# Altium footprint library Power Supply.PcbLib: 9 footprints
Each footprint in its own frame and in the unit in brackets; x right, y up, seen from the top. Pads: shape width x height; smd on the part's side, far side on the other; paste and mask are expansions set on the pad; w line width, h text height; cw(c..) or ccw(c..) is an arc to the next point about the centre after c.
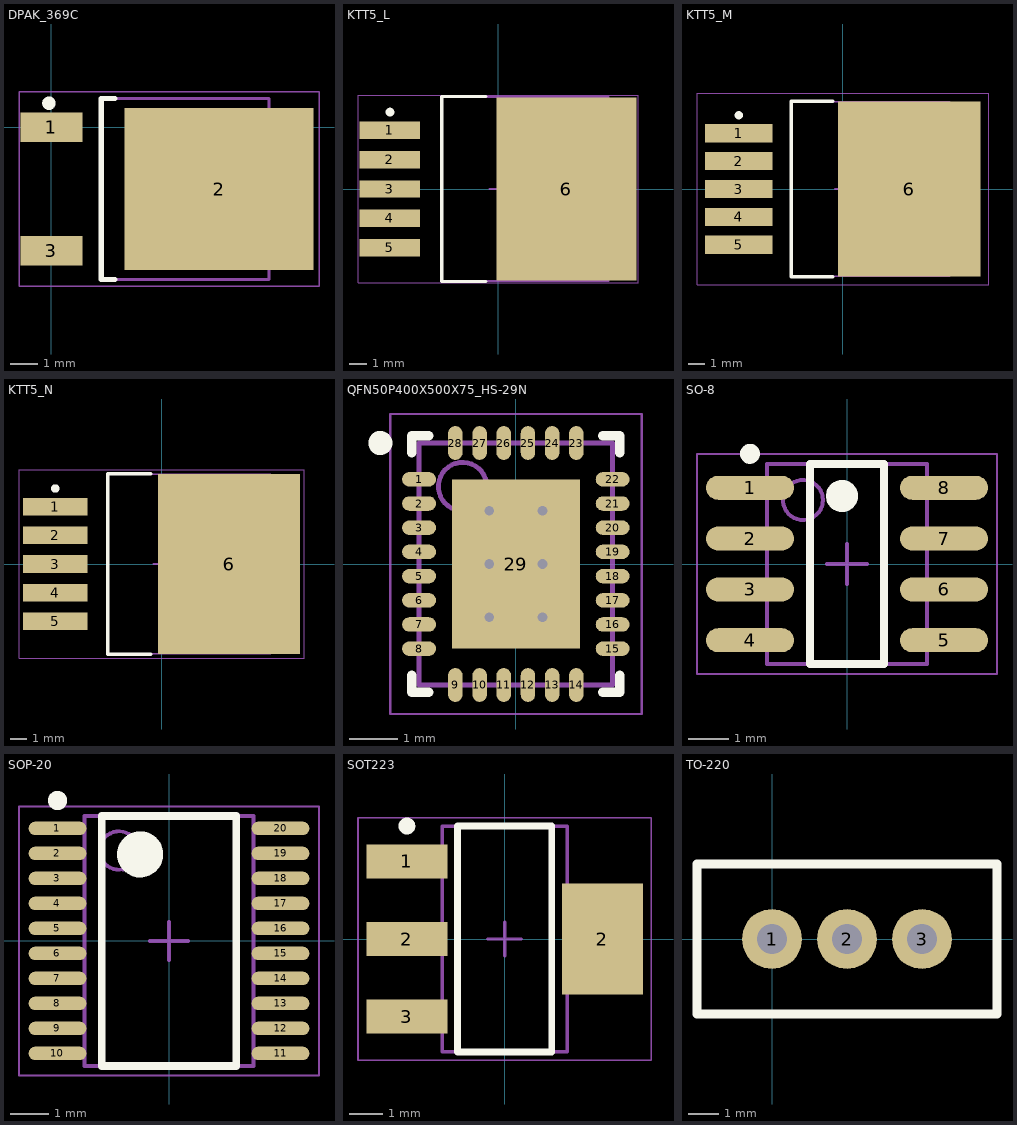
[diagram p0: the footprints below, top view; thin cyan lines are the x and y axes]

## DPAK_369C [mm] "D-PAK, 4-Leads, Body 6.1x6.6mm, Pitch 2.29mm, Lead Span 9.7mm, IPC Medium Density"
height 2.38
pads (3):
  rect 2.3x1.1 smd: 1(0,0) 3(0,-4.56)
  rect 7x6 smd: 2(6.2,-2.28)
Top Overlay:
  circle w0.25: c-0.093,0.895 r0.125
  lines w0.2: 2.35,-5.63 1.85,-5.63 1.85,1.07 2.35,1.07
Mechanical 13:
  lines w0.1: 1.85,-5.63 8.05,-5.63 8.05,1.07 1.85,1.07 1.85,-5.63
Mechanical 15:
  lines w0.05: -1.2,-5.88 9.9,-5.88 9.9,1.32 -1.2,1.32 -1.2,-5.88
  lines w0.1: 3.85,-2.28 4.85,-2.28 ; 4.35,-2.78 4.35,-1.78
3D body: height 2.4, standoff 0, extent -0.603,-5.58 9.497,1.02

## KTT5_L [mm] "D2-PAK, 6-Leads, Body 8.9x10.2mm, Pitch 1.7mm, Lead Span 15.2mm, IPC High Density"
height 4.83
pads (6):
  rect 3.5x1 smd: 1(-6.25,3.4) 2(-6.25,1.7) 3(-6.25,0) 4(-6.25,-1.7) 5(-6.25,-3.4)
  rect 8.1x10.6 smd: 6(3.95,0)
Top Overlay:
  circle w0.25: c-6.25,4.45 r0.125
  lines w0.2: -0.7,-5.35 -3.25,-5.35 -3.25,5.35 -0.7,5.35
Mechanical 13:
  lines w0.1: -3.25,-5.325 6.4,-5.325 6.4,5.325 -3.25,5.325 -3.25,-5.325
Mechanical 15:
  lines w0.05: -8.1,-5.425 8.1,-5.425 8.1,5.425 -8.1,5.425 -8.1,-5.425
  lines w0.1: -0.5,0 0.5,0 ; 0,-0.5 0,0.5
3D body: height 4.83, standoff 0, extent -3.25,-5.325 6.4,5.325

## KTT5_M [mm] "D2-PAK, 6-Leads, Body 8.9x10.2mm, Pitch 1.7mm, Lead Span 15.2mm, IPC Low Density"
height 4.83
pads (6):
  rect 4.1x1.1 smd: 1(-6.35,3.4) 2(-6.35,1.7) 3(-6.35,0) 4(-6.35,-1.7) 5(-6.35,-3.4)
  rect 8.7x10.7 smd: 6(4.05,0)
Top Overlay:
  circle w0.25: c-6.35,4.5 r0.125
  lines w0.2: -0.6,-5.35 -3.15,-5.35 -3.15,5.35 -0.6,5.35
Mechanical 13:
  lines w0.1: -3.15,-5.325 -3.15,5.325 6.5,5.325 6.5,-5.325 -3.15,-5.325
Mechanical 15:
  lines w0.05: -8.9,-5.85 -8.9,5.85 8.9,5.85 8.9,-5.85 -8.9,-5.85
  lines w0.1: -0.5,0 0.5,0 ; 0,-0.5 0,0.5
3D body: height 4.83, standoff 0, extent -3.15,-5.325 6.5,5.325

## KTT5_N [mm] "D2-PAK, 6-Leads, Body 8.9x10.2mm, Pitch 1.7mm, Lead Span 15.2mm, IPC Medium Density"
height 4.83
pads (6):
  rect 3.8x1.05 smd: 1(-6.3,3.4) 2(-6.3,1.7) 3(-6.3,0) 4(-6.3,-1.7) 5(-6.3,-3.4)
  rect 8.4x10.65 smd: 6(4,0)
Top Overlay:
  circle w0.25: c-6.3,4.475 r0.125
  lines w0.2: -0.65,-5.35 -3.2,-5.35 -3.2,5.35 -0.65,5.35
Mechanical 13:
  lines w0.1: -3.2,-5.325 -3.2,5.325 6.45,5.325 6.45,-5.325 -3.2,-5.325
Mechanical 15:
  lines w0.05: -8.45,-5.575 -8.45,5.575 8.45,5.575 8.45,-5.575 -8.45,-5.575
  lines w0.1: -0.5,0 0.5,0 ; 0,-0.5 0,0.5
3D body: height 4.83, standoff 0, extent -3.2,-5.325 6.45,5.325

## QFN50P400X500X75_HS-29N [mm] "QFN, 28-Leads, Body 4,00x5,00mm, Pitch 0,50mm, Thermal Pad 2,65x3,50mm, IPC Medium Density"
height 0.75
pads (29):
  oval 0.7x0.3 smd: 1(-2,1.75) 2(-2,1.25) 3(-2,0.75) 4(-2,0.25) 5(-2,-0.25) 6(-2,-0.75) 7(-2,-1.25) 8(-2,-1.75) 15(2,-1.75) 16(2,-1.25) 17(2,-0.75) 18(2,-0.25) 19(2,0.25) 20(2,0.75) 21(2,1.25) 22(2,1.75)
  oval 0.3x0.7 smd: 9(-1.25,-2.5) 10(-0.75,-2.5) 11(-0.25,-2.5) 12(0.25,-2.5) 13(0.75,-2.5) 14(1.25,-2.5) 23(1.25,2.5) 24(0.75,2.5) 25(0.25,2.5) 26(-0.25,2.5) 27(-0.75,2.5) 28(-1.25,2.5)
  rect 2.65x3.5 smd: 29(0,0)
via 0.55,-1.1 diameter 0.5 hole 0.2
via -0.55,-1.1 diameter 0.5 hole 0.2
via 0.55,0 diameter 0.5 hole 0.2
via -0.55,0 diameter 0.5 hole 0.2
via 0.55,1.1 diameter 0.5 hole 0.2
via -0.55,1.1 diameter 0.5 hole 0.2
Top Overlay:
  circle w0.25: c-2.8,2.5 r0.125
  lines w0.2: -2.15,-2.3 -2.15,-2.65 -1.8,-2.65 ; -2.15,2.3 -2.15,2.65 -1.8,2.65 ; 1.8,-2.65 2.15,-2.65 2.15,-2.3 ; 1.8,2.65 2.15,2.65 2.15,2.3
Mechanical 13:
  circle w0.1: c-1.1,1.6 r0.5
  lines w0.1: -2,-2.5 2,-2.5 2,2.5 -2,2.5 -2,-2.5
Mechanical 15:
  lines w0.05: -2.6,-3.1 2.6,-3.1 2.6,3.1 -2.6,3.1 -2.6,-3.1
  lines w0.1: -0.5,0 0.5,0 ; 0,-0.5 0,0.5
3D body: height 0.75, standoff 0.05, extent -2,-2.5 2,2.5

## SO-8 [mm] "SOIC, 8-Leads, Body 4,90x3,90mm, Pitch 1,27mm, IPC Medium Density"
height 1.75
pads (8):
  oval 2.2x0.6 smd: 1(-2.425,1.905) 2(-2.425,0.635) 3(-2.425,-0.635) 4(-2.425,-1.905) 5(2.425,-1.905) 6(2.425,-0.635) 7(2.425,0.635) 8(2.425,1.905)
Top Overlay:
  circle w0.4: c-0.125,1.7 r0.2
  circle w0.25: c-2.425,2.755 r0.125
  lines w0.2: -0.925,-2.5 0.925,-2.5 0.925,2.5 -0.925,2.5 -0.925,-2.5
Mechanical 13:
  circle w0.1: c-1.1,1.6 r0.5
  lines w0.1: -2,-2.5 2,-2.5 2,2.5 -2,2.5 -2,-2.5
Mechanical 15:
  lines w0.05: -3.75,-2.75 3.75,-2.75 3.75,2.75 -3.75,2.75 -3.75,-2.75
  lines w0.1: -0.5,0 0.5,0 ; 0,-0.5 0,0.5
3D body: height 1.75, standoff 0.1, extent -2,-2.5 2,2.5

## SOP-20 [mm] "TSOP, 20-Leads, Body 6,50x4,40mm, Pitch 0,65mm, IPC Medium Density"
height 1
pads (20):
  oval 1.5x0.35 smd: 1(-2.9,2.925) 2(-2.9,2.275) 3(-2.9,1.625) 4(-2.9,0.975) 5(-2.9,0.325) 6(-2.9,-0.325) 7(-2.9,-0.975) 8(-2.9,-1.625) 9(-2.9,-2.275) 10(-2.9,-2.925) 11(2.9,-2.925) 12(2.9,-2.275) 13(2.9,-1.625) 14(2.9,-0.975) 15(2.9,-0.325) 16(2.9,0.325) 17(2.9,0.975) 18(2.9,1.625) 19(2.9,2.275) 20(2.9,2.925)
Top Overlay:
  circle w0.6: c-0.75,2.25 r0.3
  circle w0.25: c-2.9,3.65 r0.125
  lines w0.2: -1.75,-3.25 1.75,-3.25 1.75,3.25 -1.75,3.25 -1.75,-3.25
Mechanical 13:
  circle w0.1: c-1.3,2.35 r0.5
  lines w0.1: -2.2,-3.25 2.2,-3.25 2.2,3.25 -2.2,3.25 -2.2,-3.25
Mechanical 15:
  lines w0.05: -3.9,-3.5 3.9,-3.5 3.9,3.5 -3.9,3.5 -3.9,-3.5
  lines w0.1: -0.5,0 0.5,0 ; 0,-0.5 0,0.5
3D body: height 1, standoff 0.1, extent -2.2,-3.25 2.2,3.25

## SOT223 [mm] "SOT223, 4-Leads, Body 6.5x3.5mm, Pitch 2.3mm, Lead Span 7mm, IPC Medium Density"
height 1.8
pads (4):
  rect 2.4x1 smd: 1(-2.9,2.3) 2(-2.9,0) 3(-2.9,-2.3)
  rect 2.4x3.3 smd: 2(2.9,0)
Top Overlay:
  circle w0.25: c-2.9,3.35 r0.125
  lines w0.2: -1.4,-3.35 1.4,-3.35 1.4,3.35 -1.4,3.35 -1.4,-3.35
Mechanical 13:
  lines w0.1: -1.855,-3.35 1.855,-3.35 1.855,3.35 -1.855,3.35 -1.855,-3.35
Mechanical 15:
  lines w0.05: -4.35,-3.6 4.35,-3.6 4.35,3.6 -4.35,3.6 -4.35,-3.6
  lines w0.1: -0.5,0 0.5,0 ; 0,-0.5 0,0.5
3D body: height 1.64, standoff -0.01, extent -3.5,-3.25 3.5,3.25

## TO-220 [mm]
pads (3):
  round 2 hole 1: 1(0,0) 2(2.5,0) 3(5,0)
Top Overlay:
  lines w0.3: -2.5,-2.5 -2.5,2.5 7.5,2.5 7.5,-2.5 -2.5,-2.5